# Altium integrated library Q-Resistors.IntLib: 917 symbols (part 1 of 8)
Pins are listed as number, name and electrical type; pins without a type are passive.

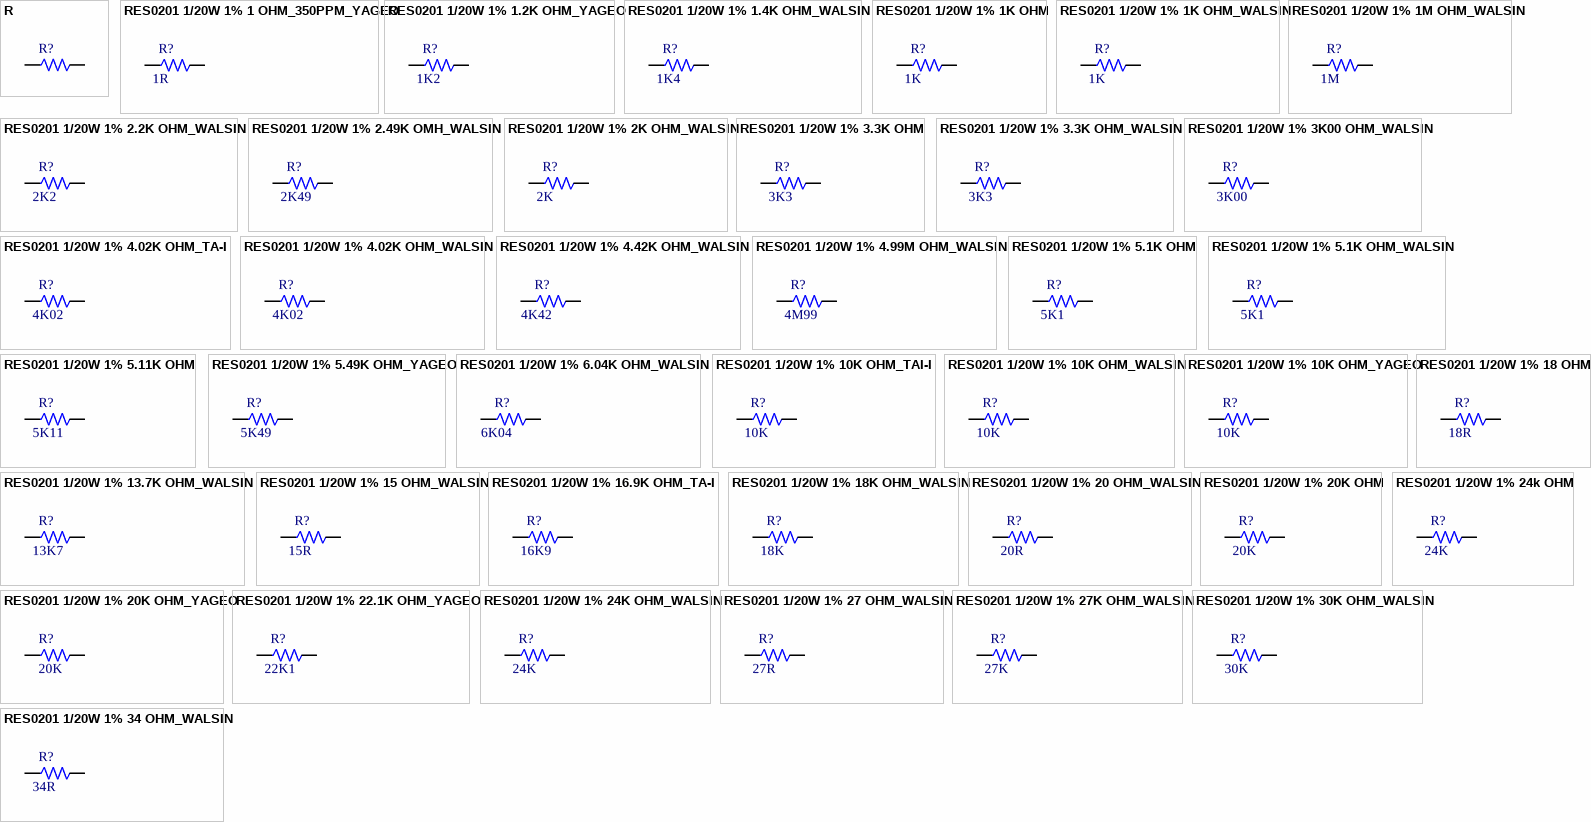
[diagram p0: symbols R to RES0201 1/20W 1% 34 OHM_WALSIN]

## R
designator R?
pins: 1, 2

## RES0201 1/20W 1% 1 OHM_350PPM_YAGEO
designator R?, comment value 1R  (hidden comment: T502100B08371)
CHIP 1 OHM 350PPM +-1% 0201 YAGE L; Power: 1/20W; MFG: YAGEO (國巨); TOL: 1%; CREATE_NAME: Nathan; DIP&SMD: SMD; Vendor Code: *; SAP: T502100B08371; Vendor Name: *; MFG Part: N/A; Type: Resistor; CREATE_TIME: 04-Jun-2020; PACKAGE: 0201; Customer Specific: N/A
footprint 0201
pins: 1, 2

## RES0201 1/20W 1% 1.2K OHM_YAGEO
designator R?, comment value 1K2  (hidden comment: T5021201083A1)
CHIP 1.2K OHM 200PPM +-1% 0201 YAGE L; MFG Part: RC0201FR-071K2L; Power: 1/20W; MFG: YAGEO (國巨); TOL: 1%; CREATE_NAME: Nathan; DIP&SMD: SMD; Vendor Code: *; SAP: T5021201083A1; Vendor Name: *; Type: Resistor; CREATE_TIME: 12-Apr-2019; PACKAGE: 0201; Customer Specific: N/A
footprint 0201
pins: 1, 2

## RES0201 1/20W 1% 1.4K OHM_WALSIN
designator R?, comment value 1K4  (hidden comment: T5021401083A9)
CHIP 1.4K OHM 200PPM +-1% 0201 WALS L; MFG Part: WR02X1401FAL; Power: 1/20W; MFG: WALSIN; TOL: 1%; CREATE_NAME: Nathan; DIP&SMD: SMD; Vendor Code: *; SAP: T5021401083A9; Vendor Name: *; Type: Resistor; CREATE_TIME: 05-Mar-2020; PACKAGE: 0201; Customer Specific: N/A
footprint 0201
pins: 1, 2

## RES0201 1/20W 1% 1K OHM
designator R?, comment value 1K  (hidden comment: T5021001083A1)
CHIP 1K OHM    200PPM +-1% 0201 YAGE L; Power: 1/20W; MFG: YAGEO (國巨); TOL: 1%; CREATE_NAME: Cherry.Chen; DIP&SMD: SMD; Vendor Code: *; SAP: T5021001083A1; Vendor Name: *; MFG Part: N/A; Type: Resistor; CREATE_TIME: 24-Feb-2016; PACKAGE: 0201; Customer Specific: N/A
footprint 0201
pins: 1, 2

## RES0201 1/20W 1% 1K OHM_WALSIN
designator R?, comment value 1K  (hidden comment: T5021001083A9)
CHIP 1K OHM    200PPM +-1% 0201 WALS L; MFG Part: WR02X1001FTL; Power: 1/20W; MFG: WALSIN; TOL: 1%; CREATE_NAME: Nathan; DIP&SMD: SMD; Vendor Code: *; SAP: T5021001083A9; Vendor Name: *; Type: Resistor; CREATE_TIME: 08-Jan-2018; PACKAGE: 0201; Customer Specific: N/A
footprint 0201
pins: 1, 2

## RES0201 1/20W 1% 1M OHM_WALSIN
designator R?, comment value 1M  (hidden comment: T5021004083A9)
CHIP 1M OHM 200PPM +-1% 0201 WALS L; MFG Part: WR02X1004FAL; Power: 1/20W; MFG: WALSIN (華新); TOL: 1%; CREATE_NAME: Nathan; DIP&SMD: SMD; Vendor Code: *; SAP: T5021004083A9; Vendor Name: *; Type: Resistor; CREATE_TIME: 08-June-2017; PACKAGE: 0201; Customer Specific: N/A
footprint 0201
pins: 1, 2

## RES0201 1/20W 1% 2.2K OHM_WALSIN
designator R?, comment value 2K2  (hidden comment: T5022201083A9)
CHIP 2.2K OHM 200PPM +-1% 0201 WALS L; MFG Part: WR02X2201FAL; Power: 1/20W; MFG: WALSIN (華新); TOL: 1%; CREATE_NAME: Nathan; DIP&SMD: SMD; Vendor Code: *; SAP: T5022201083A9; Vendor Name: *; Type: Resistor; CREATE_TIME: 12-July-2018; PACKAGE: 0201; Customer Specific: N/A
footprint 0201
pins: 1, 2

## RES0201 1/20W 1% 2.49K OMH_WALSIN
designator R?, comment value 2K49  (hidden comment: T5022491083A9)
CHIP 2.49K OHM 200PPM +-1% 0201 WALS L; MFG Part: WR02X2491FAL; TOL: 1%; MFG: WALSIN (華新); Power: 1/20W; CREATE_NAME: Nathan; DIP&SMD: SMD; SAP: T5022491083A9; Package: 0201; Vendor Code: *; Vendor Name: *; Type: Resistor; CREATE_TIME: 16-Apr-2018; Customer Specific: N/A
footprint 0201
pins: 1, 2

## RES0201 1/20W 1% 2K OHM_WALSIN
designator R?, comment value 2K  (hidden comment: T5022001083A9)
CHIP 2K OHM 200PPM +-1% 0201 WALS L; MFG Part: WR02X2001FAL; Power: 1/20W; MFG: WALSIN (華新); TOL: 1%; CREATE_NAME: Nathan; DIP&SMD: SMD; Vendor Code: *; SAP: T5022001083A9; Vendor Name: *; Type: Resistor; CREATE_TIME: 10-May-2018; PACKAGE: 0201; Customer Specific: N/A
footprint 0201
pins: 1, 2

## RES0201 1/20W 1% 3.3K OHM
designator R?, comment value 3K3  (hidden comment: T5023301083A4)
CHIP 3.3K OHM  200PPM +-1% 0201 TA-I L; Power: 1/20W; MFG: TA-I (大毅); TOL: 1%; CREATE_NAME: Cherry.Chen; DIP&SMD: SMD; Vendor Code: *; SAP: T5023301083A4; Vendor Name: *; MFG Part: N/A; Type: Resistor; CREATE_TIME: 24-Feb-2016; PACKAGE: 0201; Customer Specific: N/A
footprint 0201
pins: 1, 2

## RES0201 1/20W 1% 3.3K OHM_WALSIN
designator R?, comment value 3K3  (hidden comment: T5023301083A9)
CHIP 3.3K OHM  200PPM +-1% 0201 WALS L; MFG Part: WR02X3301FAL; Power: 1/20W; MFG: WALSIN (華新); TOL: 1%; CREATE_NAME: Nathan; DIP&SMD: SMD; Vendor Code: *; SAP: T5023301083A9; Vendor Name: *; Type: Resistor; CREATE_TIME: 03-Jan-2018; PACKAGE: 0201; Customer Specific: N/A
footprint 0201
pins: 1, 2

## RES0201 1/20W 1% 3K00 OHM_WALSIN
designator R?  value 3K00  (hidden comment: *)
CHIP 3K00 OHM  200PPM +-1% 0201 WALSIN; MFG Part: WR02X3001FAL; Power: 1/20W; MFG: WALSIN (華新); TOL: 1%; CREATE_NAME: Nathan; DIP&SMD: SMD; Vendor Code: *; SAP: *; Vendor Name: *; Type: Resistor; CREATE_TIME: 25-Aug-2020; PACKAGE: 0201; Customer Specific: N/A
footprint 0201
pins: 1, 2

## RES0201 1/20W 1% 4.02K OHM_TA-I
designator R?, comment value 4K02  (hidden comment: T5024021083A4)
CHIP 4.02K OHM 200PPM +-1% 0201 TA-I L; Power: 1/20W; TOL: 1%; CREATE_NAME: Nathan; DIP&SMD: SMD; Vendor Code: *; SAP: T5024021083A4; Vendor Name: *; MFG Part: N/A; MFG: TA-I; Type: Resistor; CREATE_TIME: 22-May-2016; PACKAGE: 0201; Customer Specific: N/A
footprint 0201
pins: 1, 2

## RES0201 1/20W 1% 4.02K OHM_WALSIN
designator R?, comment value 4K02  (hidden comment: T5024021083A9)
CHIP 4.02K OHM 200PPM +-1% 0201 WALS L; MFG Part: WR02X4021FAL; Power: 1/20W; MFG: WALSIN; TOL: 1%; CREATE_NAME: Nathan; DIP&SMD: SMD; Vendor Code: *; SAP: T5024021083A9; Vendor Name: *; Type: Resistor; CREATE_TIME: 05-Mar-2020; PACKAGE: 0201; Customer Specific: N/A
footprint 0201
pins: 1, 2

## RES0201 1/20W 1% 4.42K OHM_WALSIN
designator R?, comment value 4K42  (hidden comment: T5024421083A9)
CHIP 4.42K OHM 200PPM +-1% 0201 WALS L; MFG Part: WR02X4421FAL; Power: 1/20W; MFG: WALSIN (華新); TOL: 1%; CREATE_NAME: Nathan; DIP&SMD: SMD; Vendor Code: *; SAP: T5024421083A9; Vendor Name: *; Type: Resistor; PACKAGE: 0603; CREATE_TIME: 23-July-2019; Customer Specific: N/A
footprint 0201
pins: 1, 2

## RES0201 1/20W 1% 4.99M OHM_WALSIN
designator R?, comment value 4M99  (hidden comment: T5024994083A9)
CHIP 4.99M OHM 200PPM +-1% 0201 WALS L; MFG Part: WR02W4994FAL; Power: 1/20W; MFG: WALSIN; TOL: 1%; CREATE_NAME: Nathan; DIP&SMD: SMD; Vendor Code: *; SAP: T5024994083A9; Vendor Name: *; Type: Resistor; CREATE_TIME: 08-June-2017; PACKAGE: 0201; Customer Specific: N/A
footprint 0201
pins: 1, 2

## RES0201 1/20W 1% 5.1K OHM
designator R?, comment value 5K1  (hidden comment: T5025101083A4)
CHIP 5.1K OHM  200PPM +-1% 0201 TA-I L; Power: 1/20W; MFG: TA-I (大毅); TOL: 1%; CREATE_NAME: Cherry.Chen; DIP&SMD: SMD; Vendor Code: *; SAP: T5025101083A4; Vendor Name: *; MFG Part: N/A; Type: Resistor; CREATE_TIME: 24-Feb-2016; PACKAGE: 0201; Customer Specific: N/A
footprint 0201
pins: 1, 2

## RES0201 1/20W 1% 5.1K OHM_WALSIN
designator R?, comment value 5K1  (hidden comment: T5025101083A9)
CHIP 5.1K OHM  200PPM +-1% 0201 WALS L; MFG Part: WR02X5101FTL; Power: 1/20W; MFG: WALSIN (華新); TOL: 1%; CREATE_NAME: Nathan; DIP&SMD: SMD; Vendor Code: *; SAP: T5025101083A9; Vendor Name: *; Type: Resistor; CREATE_TIME: 08-Jan-2018; PACKAGE: 0201; Customer Specific: N/A
footprint 0201
pins: 1, 2

## RES0201 1/20W 1% 5.11K OHM
designator R?, comment value 5K11  (hidden comment: T5025111083A4)
CHIP 5.11K OHM 200PPM +-1% 0201 TA-I L; MFG Part: RM02FTN5111; Power: 1/20W; MFG: TA-I (大毅); TOL: 1%; CREATE_NAME: Cherry.Chen; DIP&SMD: SMD; Vendor Code: *; SAP: T5025111083A4; Vendor Name: *; Type: Resistor; CREATE_TIME: 24-Feb-2016; PACKAGE: 0201; Customer Specific: N/A
footprint 0201
pins: 1, 2

## RES0201 1/20W 1% 5.49K OHM_YAGEO
designator R?, comment value 5K49  (hidden comment: T5025491083A1)
CHIP 5.49K OHM 200PPM +-1% 0201 YAGE L; MFG Part: RC0201FR-075K49L; Power: 1/20W; MFG: YAGEO; TOL: 1%; CREATE_NAME: Nathan; DIP&SMD: SMD; Vendor Code: *; SAP: T5025491083A1; Vendor Name: *; Type: Resistor; CREATE_TIME: 26-Mar-2020; PACKAGE: 0201; Customer Specific: N/A
footprint 0201
pins: 1, 2

## RES0201 1/20W 1% 6.04K OHM_WALSIN
designator R?, comment value 6K04  (hidden comment: T5026041083A9)
CHIP 6.04K OHM 200PPM +-1% 0201 WALS L; MFG Part: WR02X6041FAL; Power: 1/20W; MFG: WALSIN (華新); TOL: 1%; CREATE_NAME: Nathan; DIP&SMD: SMD; Vendor Code: *; SAP: T5026041083A9; Vendor Name: *; Type: Resistor; PACKAGE: 0201; CREATE_TIME: 23-July-2019; Customer Specific: N/A
footprint 0201
pins: 1, 2

## RES0201 1/20W 1% 10K OHM_TAI-I
designator R?, comment value 10K  (hidden comment: T5021002083A4)
CHIP 10K OHM 200PPM +-1% 0201 TA-I L; MFG Part: RM02FTN1002; Power: 1/20W; MFG: TA-I (大毅); TOL: 1%; CREATE_NAME: Nathan; DIP&SMD: SMD; Vendor Code: *; SAP: T5021002083A4; Vendor Name: *; Type: Resistor; CREATE_TIME: 22-May-2016; PACKAGE: 0201; Customer Specific: N/A
footprint 0201
pins: 1, 2

## RES0201 1/20W 1% 10K OHM_WALSIN
designator R?, comment value 10K  (hidden comment: T5021002083A9)
CHIP 10K OHM 200PPM +-1% 0201 WALS L; MFG Part: WR02X1002FAL; Power: 1/20W; MFG: WALSIN; TOL: 1%; CREATE_NAME: Nathan; DIP&SMD: SMD; Vendor Code: *; SAP: T5021002083A9; Vendor Name: *; Type: Resistor; CREATE_TIME: 08-Jan-2018; PACKAGE: 0201; Customer Specific: N/A
footprint 0201
pins: 1, 2

## RES0201 1/20W 1% 10K OHM_YAGEO
designator R?, comment value 10K  (hidden comment: T5021002083A1)
CHIP 10K OHM   200PPM +-1% 0201 YAGE L; Power: 1/20W; MFG: YAGEO (國巨); TOL: 1%; CREATE_NAME: Nathan; DIP&SMD: SMD; Vendor Code: *; SAP: T5021002083A1; Vendor Name: *; MFG Part: N/A; Type: Resistor; CREATE_TIME: 23-May-2016; PACKAGE: 0201; Customer Specific: N/A
footprint 0201
pins: 1, 2

## RES0201 1/20W 1% 13.7K OHM_WALSIN
designator R?, comment value 13K7  (hidden comment: T5021372083A9)
CHIP 13.7K OHM 200PPM +-1% 0201 WALS L; MFG Part: WR02X1372FAL; Power: 1/20W; MFG: WALSIN; TOL: 1%; CREATE_NAME: Nathan; DIP&SMD: SMD; Vendor Code: *; SAP: T5021372083A9; Vendor Name: *; Type: Resistor; CREATE_TIME: 26-Mar-2020; PACKAGE: 0201; Customer Specific: N/A
footprint 0201
pins: 1, 2

## RES0201 1/20W 1% 15 OHM_WALSIN
designator R?, comment value 15R  (hidden comment: T502150A083A9)
CHIP 15 OHM 200PPM +-1% 0201 WALS L; MFG Part: WR02X15R0FAL; Power: 1/20W; MFG: WALSIN; TOL: 1%; CREATE_NAME: Nathan; DIP&SMD: SMD; Vendor Code: *; SAP: T502150A083A9; Vendor Name: *; Type: Resistor; CREATE_TIME: 21-June-2019; PACKAGE: 0201; Customer Specific: N/A
footprint 0201
pins: 1, 2

## RES0201 1/20W 1% 16.9K OHM_TA-I
designator R?  value 16K9  (hidden comment: *)
CHIP 16.9K ±1% OHM 0201; MFG Part: RM02FTN1692; Power: 1/20W; MFG: TA-I; CREATE_NAME: Nathan; DIP&SMD: SMD; Vendor Code: *; SAP: *; Vendor Name: *; TOL: 1%; Type: Resistor; CREATE_TIME: 23-Jul-2020; PACKAGE: 0201; Customer Specific: N/A
footprint 0201
pins: 1, 2

## RES0201 1/20W 1% 18 OHM
designator R?, comment value 18R  (hidden comment: T502180A083A9)
CHIP 18 OHM    200PPM +-1% 0201 WALS L; Power: 1/20W; TOL: 1%; CREATE_NAME: Nathan; DIP&SMD: SMD; Vendor Code: *; SAP: T502180A083A9; Vendor Name: *; MFG Part: N/A; MFG: WALS; Type: Resistor; CREATE_TIME: 23-May-2016; PACKAGE: 0201; Customer Specific: N/A
footprint 0201
pins: 1, 2

## RES0201 1/20W 1% 18K OHM_WALSIN
designator R?, comment value 18K  (hidden comment: T5021802083A9)
CHIP 18K OHM 200PPM +-1% 0201 WALSIN L; Power: 1/20W; MFG: WALSIN (華新); TOL: 1%; CREATE_NAME: Nathan; DIP&SMD: SMD; Vendor Code: *; SAP: T5021802083A9; Vendor Name: *; MFG Part: *; Type: Resistor; CREATE_TIME: 29-Mar-2017; PACKAGE: 0201; Customer Specific: N/A
footprint 0201
pins: 1, 2

## RES0201 1/20W 1% 20 OHM_WALSIN
designator R?, comment value 20R  (hidden comment: T502200A083A9)
CHIP 20 OHM 200PPM +-1% 0201 WALS L; MFG Part: WR02X20R0FAL; Power: 1/20W; MFG: WALSIN (華新); TOL: 1%; CREATE_NAME: Nathan; DIP&SMD: SMD; Vendor Code: *; SAP: T502200A083A9; Vendor Name: *; Type: Resistor; CREATE_TIME: 25-Aug-2020; PACKAGE: 0201; Customer Specific: N/A
footprint 0201
pins: 1, 2

## RES0201 1/20W 1% 20K OHM
designator R?, comment value 20K  (hidden comment: T5022002083A4)
CHIP 20K OHM   200PPM +-1% 0201 TA-I L; Power: 1/20W; MFG: TA-I (大毅); TOL: 1%; CREATE_NAME: Nathan; DIP&SMD: SMD; Vendor Code: *; SAP: T5022002083A4; Vendor Name: *; MFG Part: N/A; Type: Resistor; CREATE_TIME: 22-May-2016; PACKAGE: 0201; Customer Specific: N/A
footprint 0201
pins: 1, 2

## RES0201 1/20W 1% 20K OHM_YAGEO
designator R?, comment value 20K  (hidden comment: T5022002083A1)
CHIP 20K OHM  200PPM +-1% 0201 YAGE; MFG Part: RC0201FR-0720KL; Power: 1/20W; MFG: YAGEO; TOL: 1%; CREATE_NAME: Beryl; DIP&SMD: SMD; Vendor Code: *; SAP: T5022002083A1; Vendor Name: *; Type: Resistor; CREATE_TIME: 05-Feb-2020; PACKAGE: 0201; Customer Specific: N/A
footprint 0201
pins: 1, 2

## RES0201 1/20W 1% 22.1K OHM_YAGEO
designator R?  value 22K1  (hidden comment: *)
CHIP 22.1K OHM  200PPM +-1% 0201 YAGE; Power: 1/20W; MFG: YAGEO (國巨); TOL: 1%; CREATE_NAME: Nathan; DIP&SMD: SMD; Vendor Code: *; SAP: *; Vendor Name: *; MFG Part: N/A; Type: Resistor; CREATE_TIME: 24-Sep-2020; PACKAGE: 0201; Customer Specific: N/A
footprint 0201
pins: 1, 2

## RES0201 1/20W 1% 24k OHM
designator R?, comment value 24K  (hidden comment: T5022402083A1)
CHIP 24K OHM   200PPM +-1% 0201 YAGE L; MFG Part: RC0201FR-0724KL; Power: 1/20W; MFG: YAGEO (國巨); TOL: 1%; CREATE_NAME: Cherry.Chen; DIP&SMD: SMD; Vendor Code: *; SAP: T5022402083A1; Vendor Name: *; Type: Resistor; CREATE_TIME: 24-Feb-2016; PACKAGE: 0201; Customer Specific: N/A
footprint 0201
pins: 1, 2

## RES0201 1/20W 1% 24K OHM_WALSIN
designator R?, comment value 24K  (hidden comment: T5022402083A9)
CHIP 24K OHM   200PPM +-1% 0201 WALS L; MFG Part: WR02X2402FAL; Power: 1/20W; MFG: WALSIN (華新); TOL: 1%; CREATE_NAME: Nathan; DIP&SMD: SMD; Vendor Code: *; SAP: T5022402083A9; Vendor Name: *; Type: Resistor; CREATE_TIME: 03-Jan-2018; PACKAGE: 0201; Customer Specific: N/A
footprint 0201
pins: 1, 2

## RES0201 1/20W 1% 27 OHM_WALSIN
designator R?, comment value 27R  (hidden comment: T502270A083A9)
CHIP 27 OHM 200PPM +-1% 0201 WALS L; MFG Part: WR02X27R0FAL; Power: 1/20W; MFG: WALSIN; TOL: 1%; CREATE_NAME: Nathan; DIP&SMD: SMD; Vendor Code: *; SAP: T502270A083A9; Vendor Name: *; Type: Resistor; CREATE_TIME: 05-Mar-2020; PACKAGE: 0201; Customer Specific: N/A
footprint 0201
pins: 1, 2

## RES0201 1/20W 1% 27K OHM_WALSIN
designator R?, comment value 27K  (hidden comment: T5022702083A9)
CHIP 27K OHM   200PPM +-1% 0201 WALS L; MFG Part: WR02X2702FAL; Power: 1/20W; MFG: WALSIN (華新); TOL: 1%; CREATE_NAME: Nathan; DIP&SMD: SMD; Vendor Code: *; SAP: T5022702083A9; Vendor Name: *; Type: Resistor; CREATE_TIME: 03-Jan-2018; PACKAGE: 0201; Customer Specific: N/A
footprint 0201
pins: 1, 2

## RES0201 1/20W 1% 30K OHM_WALSIN
designator R?, comment value 30K  (hidden comment: T5023002083A9)
CHIP 30K OHM 200PPM +-1% 0201 WALS L; MFG Part: WR02X3002FTL; Power: 1/20W; MFG: WALSIN (華新); TOL: 1%; CREATE_NAME: Nathan; DIP&SMD: SMD; Vendor Code: *; SAP: T5023002083A9; Vendor Name: *; Type: Resistor; CREATE_TIME: 09-Sep-2019; PACKAGE: 0201; Customer Specific: N/A
footprint 0201
pins: 1, 2

## RES0201 1/20W 1% 34 OHM_WALSIN
designator R?, comment value 34R  (hidden comment: T502340A083A9)
CHIP 34 OHM  1 200PPM +-1% 0201 WALS L; MFG Part: WR02X34R0FAL; Power: 1/20W; MFG: WALSIN (華新); TOL: 1%; CREATE_NAME: Nathan; DIP&SMD: SMD; Vendor Code: *; SAP: T502340A083A9; Vendor Name: *; Type: Resistor; CREATE_TIME: 03-Jan-2018; PACKAGE: 0201; Customer Specific: N/A
footprint 0201
pins: 1, 2

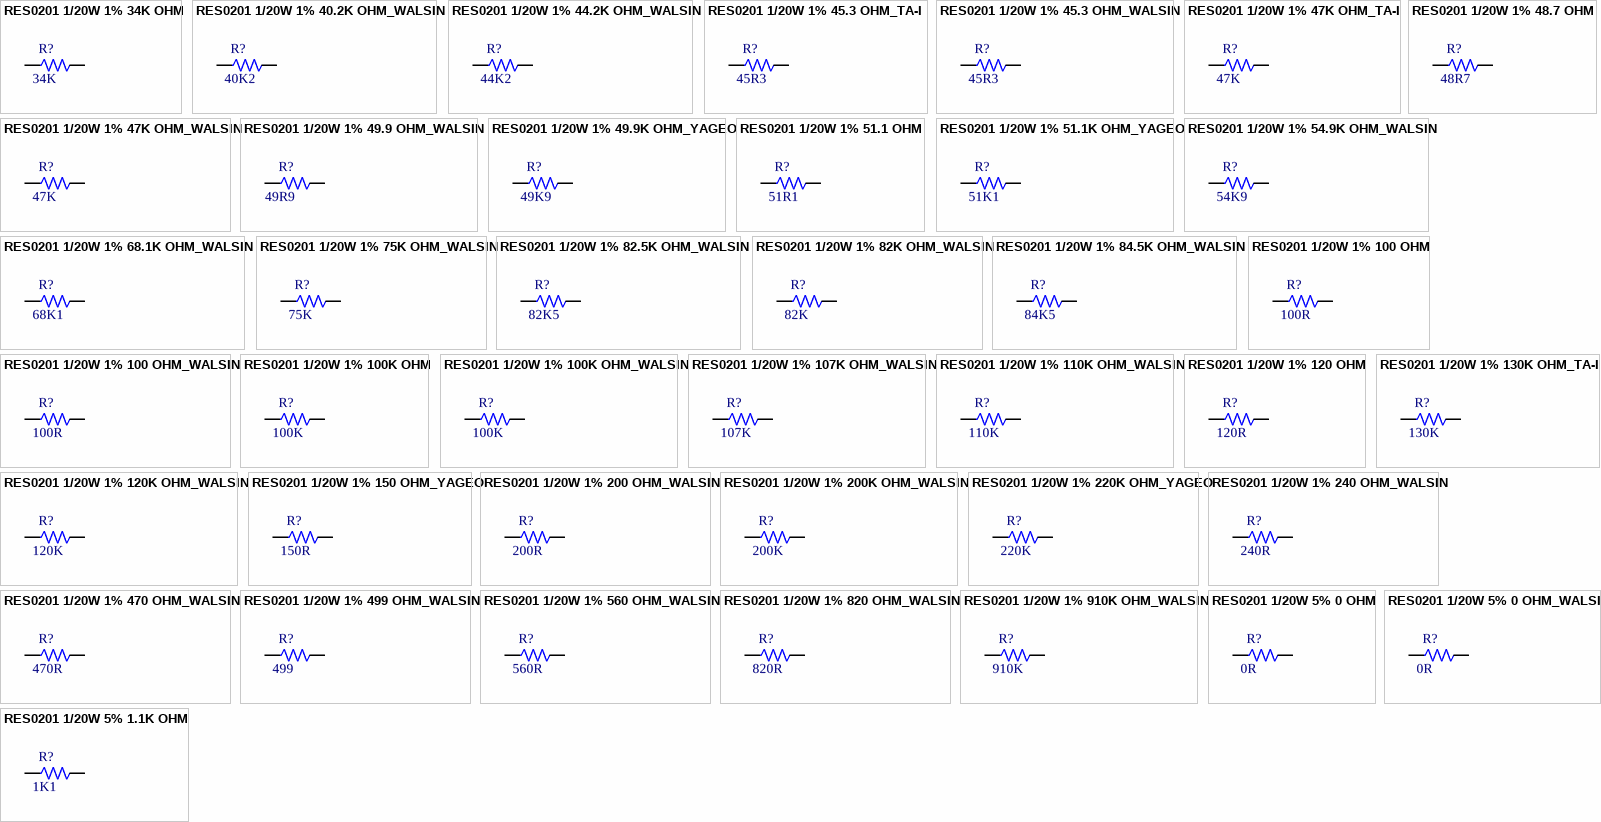
[diagram p1: symbols RES0201 1/20W 1% 34K OHM to RES0201 1/20W 5% 1.1K OHM]

## RES0201 1/20W 1% 34K OHM
designator R?, comment value 34K  (hidden comment: T5023402083A1)
CHIP 34K OHM   200PPM +-1% 0201 YAGE L; Power: 1/20W; MFG: YAGEO (國巨); TOL: 1%; CREATE_NAME: Cherry.Chen; DIP&SMD: SMD; Vendor Code: *; SAP: T5023402083A1; Vendor Name: *; MFG Part: *; Type: Resistor; CREATE_TIME: 24-Feb-2016; PACKAGE: 0201; Customer Specific: N/A
footprint 0201
pins: 1, 2

## RES0201 1/20W 1% 40.2K OHM_WALSIN
designator R?, comment value 40K2  (hidden comment: T5024022083A9)
CHIP 40.2K OHM 200PPM +-1% 0201 WALS L; Power: 1/20W; MFG: WALSIN (華新); TOL: 1%; CREATE_NAME: Nathan; DIP&SMD: SMD; Vendor Code: *; SAP: T5024022083A9; Vendor Name: *; MFG Part: *; Type: Resistor; CREATE_TIME: 02-June-2017; PACKAGE: 0201; Customer Specific: N/A
footprint 0201
pins: 1, 2

## RES0201 1/20W 1% 44.2K OHM_WALSIN
designator R?, comment value 44K2  (hidden comment: T5024422083A9)
CHIP 44.2K OHM 200PPM +-1% 0201 WALS L; MFG Part: WR02X4422FTL; Power: 1/20W; MFG: WALSIN (華新); TOL: 1%; CREATE_NAME: Nathan; DIP&SMD: SMD; Vendor Code: *; SAP: T5024422083A9; Vendor Name: *; Type: Resistor; CREATE_TIME: 17-Jan-2018; PACKAGE: 0201; Customer Specific: N/A
footprint 0201
pins: 1, 2

## RES0201 1/20W 1% 45.3 OHM_TA-I
designator R?, comment value 45R3  (hidden comment: T502453A083A4)
CHIP 45.3 OHM 200PPM +-1% 0201 TA-I L; MFG Part: RM02FTN45R3; Power: 1/20W; TOL: 1%; CREATE_NAME: Nathan; DIP&SMD: SMD; Vendor Code: *; SAP: T502453A083A4; Vendor Name: *; MFG: TA-I; Type: Resistor; CREATE_TIME: 24-May-2017; PACKAGE: 0201; Customer Specific: N/A
footprint 0201
pins: 1, 2

## RES0201 1/20W 1% 45.3 OHM_WALSIN
designator R?, comment value 45R3  (hidden comment: T502453A083A9)
CHIP 45.3 OHM  200PPM +-1% 0201 WALS L; MFG Part: WR02X45R3FAL; Power: 1/20W; MFG: WALSIN (華新); TOL: 1%; CREATE_NAME: Nathan; DIP&SMD: SMD; Vendor Code: *; SAP: T502453A083A9; Vendor Name: *; Type: Resistor; CREATE_TIME: 03-Jan-2018; PACKAGE: 0201; Customer Specific: N/A
footprint 0201
pins: 1, 2

## RES0201 1/20W 1% 47K OHM_TA-I
designator R?, comment value 47K  (hidden comment: T5024702083A4)
CHIP 47K OHM   200PPM +-1% 0201 TA-I L; Power: 1/20W; TOL: 1%; CREATE_NAME: Nathan; DIP&SMD: SMD; Vendor Code: *; SAP: T5024702083A4; Vendor Name: *; MFG Part: N/A; MFG: TA-I; Type: Resistor; CREATE_TIME: 22-May-2016; PACKAGE: 0201; Customer Specific: N/A
footprint 0201
pins: 1, 2

## RES0201 1/20W 1% 47K OHM_WALSIN
designator R?, comment value 47K  (hidden comment: T5024702083A9)
CHIP 47K OHM   200PPM +-1% 0201 WALS L; MFG Part: WR02X4702FAL; Power: 1/20W; MFG: WALSIN (華新); TOL: 1%; CREATE_NAME: Nathan; DIP&SMD: SMD; Vendor Code: *; SAP: T5024702083A9; Vendor Name: *; Type: Resistor; CREATE_TIME: 03-Jan-2018; PACKAGE: 0201; Customer Specific: N/A
footprint 0201
pins: 1, 2

## RES0201 1/20W 1% 48.7 OHM
designator R?, comment value 48R7  (hidden comment: T502487A083A4)
CHIP 48.7 OHM  200PPM +-1% 0201 TA-I L; Power: 1/20W; MFG: TA-I (大毅); TOL: 1%; CREATE_NAME: Cherry.Chen; DIP&SMD: SMD; Vendor Code: *; SAP: T502487A083A4; Vendor Name: *; MFG Part: *; Type: Resistor; CREATE_TIME: 24-Feb-2016; PACKAGE: 0201; Customer Specific: N/A
footprint 0201
pins: 1, 2

## RES0201 1/20W 1% 49.9 OHM_WALSIN
designator R?, comment value 49R9  (hidden comment: T502499A083A9)
CHIP 49.9 OHM 200PPM +-1% 0201 WALS; MFG Part: WR02X49R9FAL; Power: 1/20W; MFG: WALSIN (華新); TOL: 1%; CREATE_NAME: Nathan; DIP&SMD: SMD; Vendor Code: *; SAP: T502499A083A9; Vendor Name: *; Type: Resistor; PACKAGE: 0201; CREATE_TIME: 23-July-2019; Customer Specific: N/A
footprint 0201
pins: 1, 2

## RES0201 1/20W 1% 49.9K OHM_YAGEO
designator R?, comment value 49K9  (hidden comment: T5024992083A1)
CHIP 49.9K OHM 200PPM +-1% 0201 YAGE L; Power: 1/20W; MFG: YAGEO (國巨); TOL: 1%; CREATE_NAME: Nathan; DIP&SMD: SMD; Vendor Code: *; SAP: T5024992083A1; Vendor Name: *; MFG Part: N/A; Type: Resistor; CREATE_TIME: 22-May-2016; PACKAGE: 0201; Customer Specific: N/A
footprint 0201
pins: 1, 2

## RES0201 1/20W 1% 51.1 OHM
designator R?, comment value 51R1  (hidden comment: T502511A083A4)
CHIP 51.1 OHM  200PPM +-1% 0201 TA-I L; MFG Part: RM02FTN51R1; Power: 1/20W; MFG: TA-I (大毅); TOL: 1%; CREATE_NAME: Cherry.Chen; DIP&SMD: SMD; Vendor Code: *; SAP: T502511A083A4; Vendor Name: *; Type: Resistor; CREATE_TIME: 24-Feb-2016; PACKAGE: 0201; Customer Specific: N/A
footprint 0201
pins: 1, 2

## RES0201 1/20W 1% 51.1K OHM_YAGEO
designator R?, comment value 51K1  (hidden comment: T5025112083A1)
CHIP 51.1K OHM 200PPM +-1% 0201 YAGE L; Power: 1/20W; MFG: YAGEO (國巨); TOL: 1%; CREATE_NAME: Nathan; DIP&SMD: SMD; Vendor Code: *; SAP: T5025112083A1; Vendor Name: *; MFG Part: N/A; Type: Resistor; CREATE_TIME: 22-May-2016; PACKAGE: 0201; Customer Specific: N/A
footprint 0201
pins: 1, 2

## RES0201 1/20W 1% 54.9K OHM_WALSIN
designator R?, comment value 54K9  (hidden comment: T5025492083A9)
CHIP 54.9K OHM 200PPM +-1% 0201 WALS L; MFG Part: WR02X5492FAL; Power: 1/20W; MFG: WALSIN (華新); TOL: 1%; CREATE_NAME: Nathan; DIP&SMD: SMD; Vendor Code: *; SAP: T5025492083A9; Vendor Name: *; Type: Resistor; CREATE_TIME: 03-Jan-2018; PACKAGE: 0201; Customer Specific: N/A
footprint 0201
pins: 1, 2

## RES0201 1/20W 1% 68.1K OHM_WALSIN
designator R?, comment value 68K1  (hidden comment: T5026812083A9)
CHIP 68.1K OHM 200PPM +-1% 0201 WALS L; MFG Part: WR02X6812FAL; Power: 1/20W; MFG: WALSIN; TOL: 1%; CREATE_NAME: Nathan; DIP&SMD: SMD; Vendor Code: *; SAP: T5026812083A9; Vendor Name: *; Type: Resistor; CREATE_TIME: 10-Mar-2020; PACKAGE: 0201; Customer Specific: N/A
footprint 0201
pins: 1, 2

## RES0201 1/20W 1% 75K OHM_WALSIN
designator R?, comment value 75K  (hidden comment: T5027502083A9)
CHIP 75K OHM 200PPM +-1% 0201 WALS L; MFG Part: WR02X7502FTL; Power: 1/20W; MFG: WALSIN (華新); TOL: 1%; CREATE_NAME: Cherry; DIP&SMD: SMD; Vendor Code: *; SAP: T5027502083A9; Vendor Name: *; Type: Resistor; CREATE_TIME: 06-Feb-2018; PACKAGE: 0201
footprint 0201
pins: 1, 2

## RES0201 1/20W 1% 82.5K OHM_WALSIN
designator R?, comment value 82K5  (hidden comment: T5028252083A9)
CHIP 82.5K OHM 200PPM +-1% 0201 WALS L; MFG Part: WR02X8252FAL; Power: 1/20W; MFG: WALSIN (華新); TOL: 1%; CREATE_NAME: Nathan; DIP&SMD: SMD; Vendor Code: *; SAP: T5028252083A9; Vendor Name: *; Type: Resistor; CREATE_TIME: 03-Jan-2018; PACKAGE: 0201; Customer Specific: N/A
footprint 0201
pins: 1, 2

## RES0201 1/20W 1% 82K OHM_WALSIN
designator R?, comment value 82K  (hidden comment: T5028202083A9)
CHIP 82K OHM 200PPM +-1% 0201 WALSIN L; Power: 1/20W; MFG: WALSIN (華新); TOL: 1%; CREATE_NAME: Nathan; DIP&SMD: SMD; Vendor Code: *; SAP: T5028202083A9; Vendor Name: *; MFG Part: *; Type: Resistor; CREATE_TIME: 29-Mar-2017; PACKAGE: 0201; Customer Specific: N/A
footprint 0201
pins: 1, 2

## RES0201 1/20W 1% 84.5K OHM_WALSIN
designator R?, comment value 84K5  (hidden comment: T5028452083A9)
CHIP 84.5K OHM 200PPM +-1% 0201 WALS L; MFG Part: WR02X8452FTL; Power: 1/20W; MFG: WALSIN (華新); TOL: 1%; CREATE_NAME: Nathan; DIP&SMD: SMD; Vendor Code: *; SAP: T5028452083A9; Vendor Name: *; Type: Resistor; CREATE_TIME: 02-Aug-2018; PACKAGE: 0201; Customer Specific: N/A
footprint 0201
pins: 1, 2

## RES0201 1/20W 1% 100 OHM
designator R?, comment value 100R  (hidden comment: T5021000083A4)
CHIP 100 OHM 200PPM +-1% 0201 TA-I L; Power: 1/20W; MFG: TA-I (大毅); TOL: 1%; CREATE_NAME: Cherry.Chen; DIP&SMD: SMD; Vendor Code: *; SAP: T5021000083A4; Vendor Name: *; MFG Part: N/A; Type: Resistor; CREATE_TIME: 24-Feb-2016; PACKAGE: 0201; Customer Specific: N/A
footprint 0201
pins: 1, 2

## RES0201 1/20W 1% 100 OHM_WALSIN
designator R?, comment value 100R  (hidden comment: T5021000083A9)
CHIP 100 OHM 200PPM +-1% 0201 WALS L; MFG Part: WR02X1000FAL; Power: 1/20W; MFG: WALSIN (華新); TOL: 1%; CREATE_NAME: Nathan; DIP&SMD: SMD; Vendor Code: *; SAP: T5021000083A9; Vendor Name: *; Type: Resistor; CREATE_TIME: 19-Jan-2018; PACKAGE: 0201; Customer Specific: N/A
footprint 0201
pins: 1, 2

## RES0201 1/20W 1% 100K OHM
designator R?, comment value 100K  (hidden comment: T5021003083A1)
CHIP 100K OHM  200PPM +-1% 0201 YAGE L; Power: 1/20W; MFG: YAGEO (國巨); TOL: 1%; CREATE_NAME: Cherry.Chen; DIP&SMD: SMD; Vendor Code: *; SAP: T5021003083A1; Vendor Name: *; MFG Part: N/A; Type: Resistor; CREATE_TIME: 23-Feb-2016; PACKAGE: 0201; Customer Specific: N/A
footprint 0201
pins: 1, 2

## RES0201 1/20W 1% 100K OHM_WALSIN
designator R?, comment value 100K  (hidden comment: T5021003083A9)
CHIP 100K OHM 200PPM +-1% 0201 WALSIN L; Power: 1/20W; MFG: WALSIN (華新); TOL: 1%; CREATE_NAME: Nathan; DIP&SMD: SMD; Vendor Code: *; SAP: T5021003083A9; Vendor Name: *; MFG Part: N/A; Type: Resistor; CREATE_TIME: 29-Mar-2017; PACKAGE: 0201; Customer Specific: N/A
footprint 0201
pins: 1, 2

## RES0201 1/20W 1% 107K OHM_WALSIN
designator R?, comment value 107K  (hidden comment: T5021073083A9)
CHIP 107K OHM 200PPM +-1% 0201 WALS L; MFG Part: WR02X1073FTL; Power: 1/20W; MFG: WALSIN (華新); TOL: 1%; CREATE_NAME: Nathan; DIP&SMD: SMD; Vendor Code: *; SAP: T5021073083A9; Vendor Name: *; Type: Resistor; CREATE_TIME: 12-July-2018; PACKAGE: 0201; Customer Specific: N/A
footprint 0201
pins: 1, 2

## RES0201 1/20W 1% 110K OHM_WALSIN
designator R?, comment value 110K  (hidden comment: T5021103083A9)
CHIP 110K OHM 200PPM +-1% 0201 WALSIN L; Power: 1/20W; MFG: WALSIN (華新); TOL: 1%; CREATE_NAME: Nathan; DIP&SMD: SMD; Vendor Code: *; SAP: T5021103083A9; Vendor Name: *; MFG Part: *; Type: Resistor; CREATE_TIME: 29-Mar-2017; PACKAGE: 0201; Customer Specific: N/A
footprint 0201
pins: 1, 2

## RES0201 1/20W 1% 120 OHM
designator R?, comment value 120R  (hidden comment: T5021200083A4)
CHIP 120 OHM 200PPM +-1% 0201 TA-I L; Power: 1/20W; MFG: TA-I (大毅); TOL: 1%; CREATE_NAME: Cherry.Chen; DIP&SMD: SMD; Vendor Code: *; SAP: T5021200083A4; Vendor Name: *; MFG Part: N/A; Type: Resistor; CREATE_TIME: 24-Feb-2016; PACKAGE: 0201; Customer Specific: N/A
footprint 0201
pins: 1, 2

## RES0201 1/20W 1% 120K OHM_WALSIN
designator R?, comment value 120K  (hidden comment: T502120K083A9)
CHIP 120K OHM 200PPM +-1% 0201 WALSIN L; Power: 1/20W; MFG: WALSIN (華新); TOL: 1%; CREATE_NAME: Nathan; DIP&SMD: SMD; Vendor Code: *; SAP: T502120K083A9; Vendor Name: *; MFG Part: *; Type: Resistor; CREATE_TIME: 29-Mar-2017; PACKAGE: 0201; Customer Specific: N/A
footprint 0201
pins: 1, 2

## RES0201 1/20W 1% 130K OHM_TA-I
designator R?, comment value 130K  (hidden comment: T5021303083A4)
CHIP 130K OHM 200PPM +-1% 0201 TA-I L; MFG Part: RM02FTN1303; Power: 1/20W; TOL: 1%; CREATE_NAME: Nathan; DIP&SMD: SMD; Vendor Code: *; SAP: T5021303083A4; Vendor Name: *; MFG: TA-I; Type: Resistor; CREATE_TIME: 17-June-2019; PACKAGE: 0201; Customer Specific: N/A
footprint 0201
pins: 1, 2

## RES0201 1/20W 1% 150 OHM_YAGEO
designator R?, comment value 150R  (hidden comment: T5021500083A1)
CHIP 150 OHM 200PPM +-1% 0201 YAGE L; MFG Part: RC0201FR-07150RL; Power: 1/20W; MFG: YAGEO; TOL: 1%; CREATE_NAME: Nathan; DIP&SMD: SMD; Vendor Code: *; SAP: T5021500083A1; Vendor Name: *; Type: Resistor; CREATE_TIME: 09-Mar-2020; PACKAGE: 0201; Customer Specific: N/A
footprint 0201
pins: 1, 2

## RES0201 1/20W 1% 200 OHM_WALSIN
designator R?, comment value 200R  (hidden comment: T5022000083A9)
CHIP 200 OHM 200PPM +-1% 0201 WALS L; MFG Part: WR02X2000FAL; Power: 1/20W; MFG: WALSIN (華新); TOL: 1%; CREATE_NAME: Nathan; DIP&SMD: SMD; Vendor Code: *; SAP: T5022000083A9; Vendor Name: *; Type: Resistor; CREATE_TIME: 09-May-2018; PACKAGE: 0201; Customer Specific: N/A
footprint 0201
pins: 1, 2

## RES0201 1/20W 1% 200K OHM_WALSIN
designator R?, comment value 200K  (hidden comment: T5022003083A9)
CHIP 200K OHM 200PPM +-1% 0201 WALS L; MFG Part: WR02X2003FAL; Power: 1/20W; MFG: WALSIN (華新); TOL: 1%; CREATE_NAME: Nathan; DIP&SMD: SMD; Vendor Code: *; SAP: T5022003083A9; Vendor Name: *; Type: Resistor; CREATE_TIME: 17-Jan-2018; PACKAGE: 0201; Customer Specific: N/A
footprint 0201
pins: 1, 2

## RES0201 1/20W 1% 220K OHM_YAGEO
designator R?, comment value 220K  (hidden comment: T5022203083A1)
CHIP 220K OHM  200PPM +-1% 0201 YAGE; Power: 1/20W; MFG: YAGEO (國巨); TOL: 1%; CREATE_NAME: Nathan; DIP&SMD: SMD; Vendor Code: *; SAP: T5022203083A1; Vendor Name: *; MFG Part: N/A; Type: Resistor; CREATE_TIME: 22-May-2016; PACKAGE: 0201; Customer Specific: N/A
footprint 0201
pins: 1, 2

## RES0201 1/20W 1% 240 OHM_WALSIN
designator R?, comment value 240R  (hidden comment: T5022400083A9)
CHIP 240 OHM 200PPM +-1% 0201 WALS L; MFG Part: WR02X2400FAL; Power: 1/20W; MFG: WALSIN (華新); TOL: 1%; CREATE_NAME: Nathan; DIP&SMD: SMD; Vendor Code: *; SAP: T5022400083A9; Vendor Name: *; Type: Resistor; CREATE_TIME: 12-July-2018; PACKAGE: 0201; Customer Specific: N/A
footprint 0201
pins: 1, 2

## RES0201 1/20W 1% 470 OHM_WALSIN
designator R?, comment value 470R  (hidden comment: T5024700083A9)
CHIP 470 OHM   200PPM +-1% 0201 WALS L; MFG Part: WR02X4700FAL; Power: 1/20W; MFG: WALSIN (華新); TOL: 1%; CREATE_NAME: Nathan; DIP&SMD: SMD; Vendor Code: *; SAP: T5024700083A9; Vendor Name: *; Type: Resistor; CREATE_TIME: 21-Apr-2021; PACKAGE: 0201; Customer Specific: N/A
footprint 0201
pins: 1, 2

## RES0201 1/20W 1% 499 OHM_WALSIN
designator R?, comment value 499  (hidden comment: T5024990083A9)
CHIP 499 OHM   200PPM +-1% 0201 WALS L; Power: 1/20W; MFG: WALSIN; TOL: 1%; CREATE_NAME: Nathan; DIP&SMD: SMD; Vendor Code: *; SAP: T5024990083A9; Vendor Name: *; MFG Part: N/A; Type: Resistor; CREATE_TIME: 22-May-2016; PACKAGE: 0201; Customer Specific: N/A
footprint 0201
pins: 1, 2

## RES0201 1/20W 1% 560 OHM_WALSIN
designator R?, comment value 560R  (hidden comment: T5025600083A9)
CHIP 560 OHM 200PPM +-1% 0201 WALS L; MFG Part: WR02X5600FAL; Power: 1/20W; MFG: WALSIN (華新); TOL: 1%; CREATE_NAME: Nathan; DIP&SMD: SMD; Vendor Code: *; SAP: T5025600083A9; Vendor Name: *; Type: Resistor; CREATE_TIME: 17-June-2019; PACKAGE: 0201; Customer Specific: N/A
footprint 0201
pins: 1, 2

## RES0201 1/20W 1% 820 OHM_WALSIN
designator R?, comment value 820R  (hidden comment: T5028200083A9)
CHIP 820 OHM 200PPM +-1% 0201 WALS L; Power: 1/20W; MFG: WALSIN (華新); TOL: 1%; CREATE_NAME: Nathan; DIP&SMD: SMD; Vendor Code: *; SAP: T5028200083A9; Vendor Name: *; MFG Part: *; Type: Resistor; CREATE_TIME: 29-Mar-2017; PACKAGE: 0201; Customer Specific: N/A
footprint 0201
pins: 1, 2

## RES0201 1/20W 1% 910K OHM_WALSIN
designator R?, comment value 910K  (hidden comment: T5029103083A9)
CHIP 910K OHM 200PPM +-1% 0201 WALS L; MFG Part: WR02X9103FAL; Power: 1/20W; MFG: WALSIN; TOL: 1%; CREATE_NAME: Nathan; DIP&SMD: SMD; Vendor Code: *; SAP: T5029103083A9; Vendor Name: *; Type: Resistor; CREATE_TIME: 05-Mar-2020; PACKAGE: 0201; Customer Specific: N/A
footprint 0201
pins: 1, 2

## RES0201 1/20W 5% 0 OHM
designator R?, comment value 0R  (hidden comment: T5020000084A4)
CHIP 0 OHM     200PPM +-5% 0201 TA-I L; Power: 1/20W; MFG: TA-I (大毅); TOL: 5%; CREATE_NAME: Cherry.Chen; DIP&SMD: SMD; Vendor Code: *; SAP: T5020000084A4; Vendor Name: *; MFG Part: N/A; Type: Resistor; CREATE_TIME: 23-Feb-2016; PACKAGE: 0201; Customer Specific: N/A
footprint 0201
pins: 1, 2

## RES0201 1/20W 5% 0 OHM_WALSIN
designator R?, comment value 0R  (hidden comment: T5020000084A9)
CHIP 0 OHM 200PPM +-5% 0201 WALS L; MFG Part: WR02X000 PAL; Power: 1/20W; MFG: WALSIN; TOL: 5%; CREATE_NAME: Nathan; DIP&SMD: SMD; Vendor Code: *; SAP: T5020000084A9; Vendor Name: *; Type: Resistor; CREATE_TIME: 23-May-2016; PACKAGE: 0201; Customer Specific: N/A
footprint 0201
pins: 1, 2

## RES0201 1/20W 5% 1.1K OHM
designator R?, comment value 1K1  (hidden comment: T5020112084A1)
CHIP 1.1K OHM  200PPM +-5% 0201 YAGE L; Power: 1/20W; MFG: YAGEO (國巨); TOL: 5%; CREATE_NAME: Cherry.Chen; DIP&SMD: SMD; Vendor Code: *; SAP: T5020112084A1; Vendor Name: *; MFG Part: N/A; Type: Resistor; CREATE_TIME: 23-Feb-2016; PACKAGE: 0201; Customer Specific: N/A
footprint 0201
pins: 1, 2

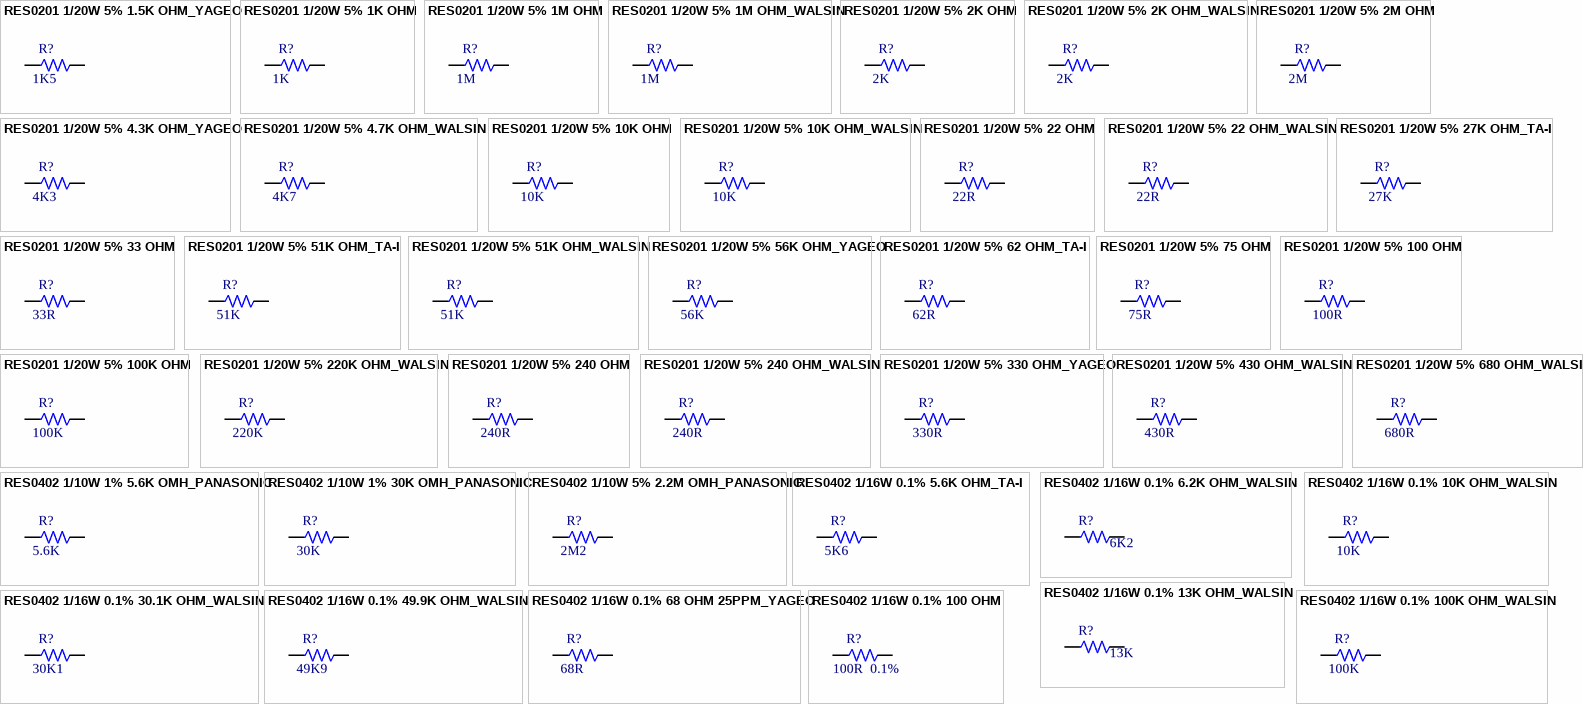
[diagram p2: symbols RES0201 1/20W 5% 1.5K OHM_YAGEO to RES0402 1/16W 0.1% 100K OHM_WALSIN]

## RES0201 1/20W 5% 1.5K OHM_YAGEO
designator R?, comment value 1K5  (hidden comment: T5020152084A1)
CHIP 1.5K OHM 200PPM +-5% 0201 YAGE L; MFG Part: RC0201JR-071K5L; Power: 1/20W; MFG: YAGEO; TOL: 5%; CREATE_NAME: Nathan; DIP&SMD: SMD; Vendor Code: *; SAP: T5020152084A1; Vendor Name: *; Type: Resistor; CREATE_TIME: 26-Mar-2020; PACKAGE: 0201; Customer Specific: N/A
footprint 0201
pins: 1, 2

## RES0201 1/20W 5% 1K OHM
designator R?, comment value 1K  (hidden comment: T5020102084A4)
CHIP 1K OHM 200PPM +-5% 0201 TA-I L; Power: 1/20W; TOL: 5%; CREATE_NAME: Cherry.Chen; DIP&SMD: SMD; Vendor Code: *; SAP: T5020102084A4; Vendor Name: *; MFG Part: N/A; MFG: TA-I; Type: Resistor; CREATE_TIME: 23-Feb-2016; PACKAGE: 0201; Customer Specific: N/A
footprint 0201
pins: 1, 2

## RES0201 1/20W 5% 1M OHM
designator R?, comment value 1M  (hidden comment: T5020105084A1)
CHIP 1M OHM    200PPM +-5% 0201 YAGE L; Power: 1/20W; MFG: YAGEO (國巨); TOL: 5%; CREATE_NAME: Cherry.Chen; DIP&SMD: SMD; Vendor Code: *; SAP: T5020105084A1; Vendor Name: *; MFG Part: N/A; Type: Resistor; CREATE_TIME: 23-Feb-2016; PACKAGE: 0201; Customer Specific: N/A
footprint 0201
pins: 1, 2

## RES0201 1/20W 5% 1M OHM_WALSIN
designator R?, comment value 1M  (hidden comment: T5020105084A9)
CHIP 1M OHM 200PPM +-5% 0201 WALSIN L; MFG Part: WR02X105 JAL; Power: 1/20W; MFG: WALSIN (華新); TOL: 5%; CREATE_NAME: Nathan; DIP&SMD: SMD; Vendor Code: *; SAP: T5020105084A9; Vendor Name: *; Type: Resistor; CREATE_TIME: 23-Mar-2017; PACKAGE: 0201; Customer Specific: N/A
footprint 0201
pins: 1, 2

## RES0201 1/20W 5% 2K OHM
designator R?, comment value 2K  (hidden comment: T5020202084A4)
CHIP 2K OHM    200PPM +-5% 0201 TA-I L; Power: 1/20W; MFG: TA-I (大毅); TOL: 5%; CREATE_NAME: Cherry.Chen; DIP&SMD: SMD; Vendor Code: *; SAP: T5020202084A4; Vendor Name: *; MFG Part: N/A; Type: Resistor; CREATE_TIME: 23-Feb-2016; PACKAGE: 0201; Customer Specific: N/A
footprint 0201
pins: 1, 2

## RES0201 1/20W 5% 2K OHM_WALSIN
designator R?, comment value 2K  (hidden comment: T5020202084A9)
CHIP 2K OHM    200PPM +-5% 0201 WALS L; MFG Part: WR02X202JAL; Power: 1/20W; MFG: WALSIN (華新); TOL: 5%; CREATE_NAME: Nathan; DIP&SMD: SMD; Vendor Code: *; SAP: T5020202084A9; Vendor Name: *; Type: Resistor; CREATE_TIME: 03-Jan-2018; PACKAGE: 0201; Customer Specific: N/A
footprint 0201
pins: 1, 2

## RES0201 1/20W 5% 2M OHM
designator R?, comment value 2M  (hidden comment: T5020205084A4)
CHIP 2M OHM    200PPM +-5% 0201 TA-I L; Power: 1/20W; MFG: TA-I (大毅); TOL: 5%; CREATE_NAME: Cherry.Chen; DIP&SMD: SMD; Vendor Code: *; SAP: T5020205084A4; Vendor Name: *; MFG Part: N/A; Type: Resistor; CREATE_TIME: 23-Feb-2016; PACKAGE: 0201; Customer Specific: N/A
footprint 0201
pins: 1, 2

## RES0201 1/20W 5% 4.3K OHM_YAGEO
designator R?, comment value 4K3  (hidden comment: T5020432084A1)
CHIP 4.3K OHM  200PPM +-5% 0201 YAGE L; Power: 1/20W; MFG: YAGEO (國巨); TOL: 5%; CREATE_NAME: Nathan; DIP&SMD: SMD; Vendor Code: *; SAP: T5020432084A1; Vendor Name: *; MFG Part: N/A; Type: Resistor; CREATE_TIME: 23-May-2016; PACKAGE: 0201; Customer Specific: N/A
footprint 0201
pins: 1, 2

## RES0201 1/20W 5% 4.7K OHM_WALSIN
designator R?, comment value 4K7  (hidden comment: T5020472084A9)
CHIP 4.7K OHM  200PPM +-5% 0201 WALS L; MFG Part: WR02X472 JAL; Power: 1/20W; MFG: WALSIN; TOL: 5%; CREATE_NAME: Nathan; DIP&SMD: SMD; Vendor Code: *; SAP: T5020472084A9; Vendor Name: *; Type: Resistor; CREATE_TIME: 08-Jan-2018; PACKAGE: 0201; Customer Specific: N/A
footprint 0201
pins: 1, 2

## RES0201 1/20W 5% 10K OHM
designator R?, comment value 10K  (hidden comment: T5020103084A4)
CHIP 10K OHM 200PPM +-5% 0201 TA-I L; Power: 1/20W; TOL: 5%; CREATE_NAME: Cherry.Chen; DIP&SMD: SMD; Vendor Code: *; SAP: T5020103084A4; Vendor Name: *; MFG Part: N/A; MFG: TA-I; Type: Resistor; CREATE_TIME: 24-Feb-2016; PACKAGE: 0201; Customer Specific: N/A
footprint 0201
pins: 1, 2

## RES0201 1/20W 5% 10K OHM_WALSIN
designator R?, comment value 10K  (hidden comment: T5020103084A9)
CHIP 10K OHM   200PPM +-5% 0201 WALS L; Power: 1/20W; MFG: WALSIN; TOL: 5%; CREATE_NAME: Nathan; DIP&SMD: SMD; Vendor Code: *; SAP: T5020103084A9; Vendor Name: *; MFG Part: N/A; Type: Resistor; CREATE_TIME: 23-May-2016; PACKAGE: 0201; Customer Specific: N/A
footprint 0201
pins: 1, 2

## RES0201 1/20W 5% 22 OHM
designator R?, comment value 22R  (hidden comment: T5020220084A4)
CHIP 22 OHM    200PPM +-5% 0201 TA-I L; Power: 1/20W; MFG: TA-I (大毅); TOL: 5%; CREATE_NAME: Cherry.Chen; DIP&SMD: SMD; Vendor Code: *; SAP: T5020220084A4; Vendor Name: *; MFG Part: N/A; Type: Resistor; CREATE_TIME: 23-Feb-2016; PACKAGE: 0201; Customer Specific: N/A
footprint 0201
pins: 1, 2

## RES0201 1/20W 5% 22 OHM_WALSIN
designator R?, comment value 22R  (hidden comment: T5020220084A9)
CHIP 22 OHM    200PPM +-5% 0201 WALS L; MFG Part: WR02X220 JAL; Power: 1/20W; MFG: WALSIN; TOL: 5%; CREATE_NAME: Nathan; DIP&SMD: SMD; Vendor Code: *; SAP: T5020220084A9; Vendor Name: *; Type: Resistor; CREATE_TIME: 08-Jan-2018; PACKAGE: 0201; Customer Specific: N/A
footprint 0201
pins: 1, 2

## RES0201 1/20W 5% 27K OHM_TA-I
designator R?, comment value 27K  (hidden comment: T5020273084A4)
CHIP 27K OHM 200PPM +-5% 0201 TA-I L; Power: 1/20W; TOL: 5%; CREATE_NAME: Nathan; DIP&SMD: SMD; Vendor Code: *; SAP: T5020273084A4; Vendor Name: *; MFG Part: *; MFG: TA-I; Type: Resistor; CREATE_TIME: 29-Mar-2017; PACKAGE: 0201; Customer Specific: N/A
footprint 0201
pins: 1, 2

## RES0201 1/20W 5% 33 OHM
designator R?, comment value 33R  (hidden comment: T5020330084A4)
CHIP 33 OHM    200PPM +-5% 0201 TA-I L; Power: 1/20W; MFG: TA-I (大毅); TOL: 5%; CREATE_NAME: Cherry.Chen; DIP&SMD: SMD; Vendor Code: *; SAP: T5020330084A4; Vendor Name: *; MFG Part: N/A; Type: Resistor; CREATE_TIME: 23-Feb-2016; PACKAGE: 0201; Customer Specific: N/A
footprint 0201
pins: 1, 2

## RES0201 1/20W 5% 51K OHM_TA-I
designator R?, comment value 51K  (hidden comment: T5020513084A4)
CHIP 51K OHM 200PPM +-5% 0201 TA-I L; Power: 1/20W; MFG: TA-I (大毅); TOL: 5%; CREATE_NAME: Nathan; DIP&SMD: SMD; Vendor Code: *; SAP: T5020513084A4; Vendor Name: *; MFG Part: *; Type: Resistor; CREATE_TIME: 29-Mar-2017; PACKAGE: 0201; Customer Specific: N/A
footprint 0201
pins: 1, 2

## RES0201 1/20W 5% 51K OHM_WALSIN
designator R?, comment value 51K  (hidden comment: T5020513084A9)
CHIP 51K OHM   200PPM +-5% 0201 WALS L; MFG Part: WR02X513JAL; Power: 1/20W; MFG: WALSIN (華新); TOL: 5%; CREATE_NAME: Nathan; DIP&SMD: SMD; Vendor Code: *; SAP: T5020513084A9; Vendor Name: *; Type: Resistor; CREATE_TIME: 03-Jan-2018; PACKAGE: 0201; Customer Specific: N/A
footprint 0201
pins: 1, 2

## RES0201 1/20W 5% 56K OHM_YAGEO
designator R?, comment value 56K  (hidden comment: T5020563084A1)
CHIP 56K OHM   200PPM +-5% 0201 YAGE L; Power: 1/20W; MFG: YAGEO (國巨); TOL: 5%; CREATE_NAME: Nathan; DIP&SMD: SMD; Vendor Code: *; SAP: T5020563084A1; Vendor Name: *; MFG Part: N/A; Type: Resistor; CREATE_TIME: 23-May-2016; PACKAGE: 0201; Customer Specific: N/A
footprint 0201
pins: 1, 2

## RES0201 1/20W 5% 62 OHM_TA-I
designator R?  value 62R  (hidden comment: *)
CHIP 62 OHM 200PPM +-5% 0201; MFG Part: RM02JTN062; Power: 1/20W; MFG: TA-I; TOL: 5%; CREATE_NAME: Nathan; DIP&SMD: SMD; Vendor Code: *; SAP: *; Vendor Name: *; Type: Resistor; CREATE_TIME: 23-Jul-2020; PACKAGE: 0201; Customer Specific: N/A
footprint 0201
pins: 1, 2

## RES0201 1/20W 5% 75 OHM
designator R?, comment value 75R  (hidden comment: T5020750084A1)
CHIP 75 OHM    200PPM +-5% 0201 YAGE L; Power: 1/20W; MFG: YAGEO (國巨); TOL: 5%; CREATE_NAME: Cherry.Chen; DIP&SMD: SMD; Vendor Code: *; SAP: T5020750084A1; Vendor Name: *; MFG Part: N/A; Type: Resistor; CREATE_TIME: 24-Feb-2016; PACKAGE: 0201; Customer Specific: N/A
footprint 0201
pins: 1, 2

## RES0201 1/20W 5% 100 OHM
designator R?, comment value 100R  (hidden comment: T5020101084A4)
CHIP 100 OHM   200PPM +-5% 0201 TA-I L; Power: 1/20W; MFG: TA-I (大毅/祥泰); TOL: 5%; CREATE_NAME: Cherry; DIP&SMD: SMD; Vendor Code: *; SAP: T5020101084A4; Vendor Name: *; MFG Part: *; Type: Resistor; CREATE_TIME: 23-Feb-2016; PACKAGE: 0201; Customer Specific: N/A
footprint 0201
pins: 1, 2

## RES0201 1/20W 5% 100K OHM
designator R?, comment value 100K  (hidden comment: T5020104084A4)
CHIP 100K OHM 200PPM +-5% 0201 TA-I L; Power: 1/20W; MFG: TA-I (大毅); TOL: 5%; CREATE_NAME: Cherry.Chen; DIP&SMD: SMD; Vendor Code: *; SAP: T5020104084A4; Vendor Name: *; MFG Part: N/A; Type: Resistor; CREATE_TIME: 24-Feb-2016; PACKAGE: 0201; Customer Specific: N/A
footprint 0201
pins: 1, 2

## RES0201 1/20W 5% 220K OHM_WALSIN
designator R?, comment value 220K  (hidden comment: T5020224084A9)
CHIP 220K OHM  200PPM +-5% 0201 WALS L; MFG Part: WR02X224JAL; Power: 1/20W; MFG: WALSIN (華新); TOL: 5%; CREATE_NAME: Nathan; DIP&SMD: SMD; Vendor Code: *; SAP: T5020224084A9; Vendor Name: *; Type: Resistor; CREATE_TIME: 03-Jan-2018; PACKAGE: 0201; Customer Specific: N/A
footprint 0201
pins: 1, 2

## RES0201 1/20W 5% 240 OHM
designator R?, comment value 240R  (hidden comment: T5020241084A1)
CHIP 240 OHM   200PPM +-5% 0201 YAGE L; Power: 1/20W; MFG: YAGEO (國巨); TOL: 5%; CREATE_NAME: Cherry.Chen; DIP&SMD: SMD; Vendor Code: *; SAP: T5020241084A1; Vendor Name: *; MFG Part: *; Type: Resistor; CREATE_TIME: 23-Feb-2016; PACKAGE: 0201; Customer Specific: N/A
footprint 0201
pins: 1, 2

## RES0201 1/20W 5% 240 OHM_WALSIN
designator R?, comment value 240R  (hidden comment: T5020241084A9)
CHIP 240 OHM   200PPM +-5% 0201 WALS L; MFG Part: WR02X241JAL; Power: 1/20W; MFG: WALSIN (華新); TOL: 5%; CREATE_NAME: Nathan; DIP&SMD: SMD; Vendor Code: *; SAP: T5020241084A9; Vendor Name: *; Type: Resistor; CREATE_TIME: 03-Jan-2018; PACKAGE: 0201; Customer Specific: N/A
footprint 0201
pins: 1, 2

## RES0201 1/20W 5% 330 OHM_YAGEO
designator R?, comment value 330R  (hidden comment: T5020331084A1)
CHIP 330 OHM 200PPM +-5% 0201 YAGE L; MFG Part: RC0201JR-07330RL; Power: 1/20W; MFG: YAGEO (國巨); TOL: 5%; CREATE_NAME: Nathan; DIP&SMD: SMD; Vendor Code: *; SAP: T5020331084A1; Vendor Name: *; Type: Resistor; CREATE_TIME: 17-June-2019; PACKAGE: 0201; Customer Specific: N/A
footprint 0201
pins: 1, 2

## RES0201 1/20W 5% 430 OHM_WALSIN
designator R?, comment value 430R  (hidden comment: T5020431084A9)
CHIP 430 OHM 200PPM +-5% 0201 WALS L; MFG Part: WR02X431 JAL; Power: 1/20W; MFG: WALSIN (華新); TOL: 5%; CREATE_NAME: Nathan; DIP&SMD: SMD; Vendor Code: *; SAP: T5020431084A9; Vendor Name: *; Type: Resistor; CREATE_TIME: 17-June-2019; PACKAGE: 0201; Customer Specific: N/A
footprint 0201
pins: 1, 2

## RES0201 1/20W 5% 680 OHM_WALSIN
designator R?, comment value 680R  (hidden comment: T5020681084A9)
CHIP 680 OHM   200PPM +-5% 0201 WALS L; MFG Part: WR02X681JAL; Power: 1/20W; MFG: WALSIN (華新); TOL: 5%; CREATE_NAME: Nathan; DIP&SMD: SMD; Vendor Code: *; SAP: T5020681084A9; Vendor Name: *; Type: Resistor; CREATE_TIME: 03-Jan-2018; PACKAGE: 0201; Customer Specific: N/A
footprint 0201
pins: 1, 2

## RES0402 1/10W 1% 5.6K OMH_PANASONIC
designator R?  value 5.6K  (hidden comment: *)
CHIP 5.6K OHM  +-1% 0402 PANASONIC; MFG Part: ERJ-2RKF3002X; TOL: 1%; Power: 0.1W; CREATE_NAME: Nathan; DIP&SMD: SMD; SAP: *; Package: 0402; MFG: Panasonic; Vendor Code: *; Vendor Name: *; Type: Resistor; CREATE_TIME: 11-Sep-2020; Customer Specific: N/A
footprint 0402-RW H0.35
pins: 1, 2

## RES0402 1/10W 1% 30K OMH_PANASONIC
designator R?  value 30K  (hidden comment: *)
CHIP 30K OHM  +-1% 0402 PANASONIC; MFG Part: ERJ-2RKF3002X; TOL: 1%; Power: 0.1W; CREATE_NAME: Nathan; DIP&SMD: SMD; SAP: *; Package: 0402; MFG: Panasonic; Vendor Code: *; Vendor Name: *; Type: Resistor; CREATE_TIME: 11-Sep-2020; Customer Specific: N/A
footprint 0402-RW H0.35
pins: 1, 2

## RES0402 1/10W 5% 2.2M OMH_PANASONIC
designator R?  value 2M2  (hidden comment: *)
CHIP 2.2M OHM +-5% 0402 PANASONIC; MFG Part: ERJ-2GEJ225X; TOL: 5%; Power: 0.1W; CREATE_NAME: Nathan; DIP&SMD: SMD; SAP: *; Package: 0402; MFG: Panasonic; Vendor Code: *; Vendor Name: *; Type: Resistor; CREATE_TIME: 11-Sep-2020; Customer Specific: N/A
footprint 0402-RW H0.35
pins: 1, 2

## RES0402 1/16W 0.1% 5.6K OHM_TA-I
designator R?, comment value 5K6  (hidden comment: T501560101114)
CHIP 5.6K OHM 25PPM +-0.1% 0402 TA-I L; MFG Part: RB04BTP5601; TOL: 0.1%; MFG: TA-I (大毅); Power: 1/16W; CREATE_NAME: Nathan; DIP&SMD: SMD; SAP: T501560101114; Package: 0402; Vendor Code: *; Vendor Name: *; Type: Resistor; CREATE_TIME: 15-Jun-2020; Customer Specific: N/A
footprint 0402-RW
pins: 1, 2

## RES0402 1/16W 0.1% 6.2K OHM_WALSIN
designator R?, comment value 6K2  (hidden comment: T502620101199)
CHIP 6.2K OHM 100PPM +-0.1% 0402 WALS L; MFG Part: WF04H6201BTL; TOL: 0.1%; MFG: WALSIN (華新); Power: 1/16W; CREATE_NAME: Nathan; DIP&SMD: SMD; SAP: T502620101199; Package: 0402; Vendor Code: *; Vendor Name: *; Type: Resistor; CREATE_TIME: 02-June-2020; Customer Specific: N/A
footprint 0402-RW
pins: 1, 2

## RES0402 1/16W 0.1% 10K OHM_WALSIN
designator R?, comment value 10K  (hidden comment: T710600041000)
CHIP 10K OHM 100PPM +-0.1% 0402 WALS L; MFG Part: WF04H1002BTL; TOL: 0.1%; MFG: WALSIN; Power: 1/16W; CREATE_NAME: Nathan; DIP&SMD: SMD; SAP: T710600041000; Package: 0402; Vendor Code: *; Vendor Name: *; Type: Resistor; CREATE_TIME: 23-Oct-2019; Customer Specific: N/A
footprint 0402-RW
pins: 1, 2

## RES0402 1/16W 0.1% 13K OHM_WALSIN
designator R?, comment value 13K  (hidden comment: T502130201199)
CHIP RES 13K OHM 0.1% 1/16W 0402; MFG Part: WF04H1302BTL; MFG: WALSIN (華新); CREATE_NAME: Nathan; DIP&SMD: SMD; SAP: T502130201199; Package: 0402; TOL: 0.1%; Vendor Code: *; Vendor Name: *; Type: Resistor; Power: 1/16W; CREATE_TIME: 02-June-2020; Customer Specific: N/A
footprint 0402-RW
pins: 1, 2

## RES0402 1/16W 0.1% 30.1K OHM_WALSIN
designator R?, comment value 30K1  (hidden comment: T710600041100)
CHIP 30.1K OHM 100PPM +-0.1% 0402 WALS L; MFG Part: WF04H3012BTL; TOL: 0.1%; MFG: WALSIN; Power: 1/16W; CREATE_NAME: Nathan; DIP&SMD: SMD; SAP: T710600041100; Package: 0402; Vendor Code: *; Vendor Name: *; Type: Resistor; CREATE_TIME: 23-Oct-2019; Customer Specific: N/A
footprint 0402-RW
pins: 1, 2

## RES0402 1/16W 0.1% 49.9K OHM_WALSIN
designator R?, comment value 49K9  (hidden comment: T710600041300)
CHIP 49.9K OHM 100PPM +-0.1% 0402 WALS L; MFG Part: WF04H4992BTL; TOL: 0.1%; MFG: WALSIN; Power: 1/16W; CREATE_NAME: Nathan; DIP&SMD: SMD; SAP: T710600041300; Package: 0402; Vendor Code: *; Vendor Name: *; Type: Resistor; CREATE_TIME: 23-Oct-2019; Customer Specific: N/A
footprint 0402-RW
pins: 1, 2

## RES0402 1/16W 0.1% 68 OHM 25PPM_YAGEO
designator R?  value 68R  (hidden comment: *)
CHIP 100K OHM 100PPM +-0.1% 0402 YAGEO; MFG Part: RT0402BRD0768RL; TOL: 0.1%; Power: 1/16W; CREATE_NAME: Nathan; DIP&SMD: SMD; SAP: *; Package: 0402; MFG: YAGEO; Vendor Code: *; Vendor Name: *; Type: Resistor; CREATE_TIME: 04-Sep-2020; Customer Specific: N/A
footprint 0402-RW
pins: 1, 2

## RES0402 1/16W 0.1% 100 OHM
designator R?, comment value 100R  TOL: 0.1%  (hidden comment: QCF167240-1000)
CHIP RES 100 OHM 1/16W 0.1% 0402; SAP: T501100001129; CREATE_NAME: TOM@Deftronics; DIP&SMD: SMD; Package: 0402; MFG Part: *; MFG: *; Vendor Code: *; Vendor Name: *; Type: Resistor; Power: 1/16W; CREATE_TIME: 05-Jun-2014; Customer Specific: N/A
footprint 0402-RW
pins: 1, 2

## RES0402 1/16W 0.1% 100K OHM_WALSIN
designator R?, comment value 100K  (hidden comment: T710600041400)
CHIP 100K OHM 100PPM +-0.1% 0402 WALS L; MFG Part: WF04H1003BTL; TOL: 0.1%; MFG: WALSIN; Power: 1/16W; CREATE_NAME: Nathan; DIP&SMD: SMD; SAP: T710600041400; Package: 0402; Vendor Code: *; Vendor Name: *; Type: Resistor; CREATE_TIME: 23-Oct-2019; Customer Specific: N/A
footprint 0402-RW
pins: 1, 2

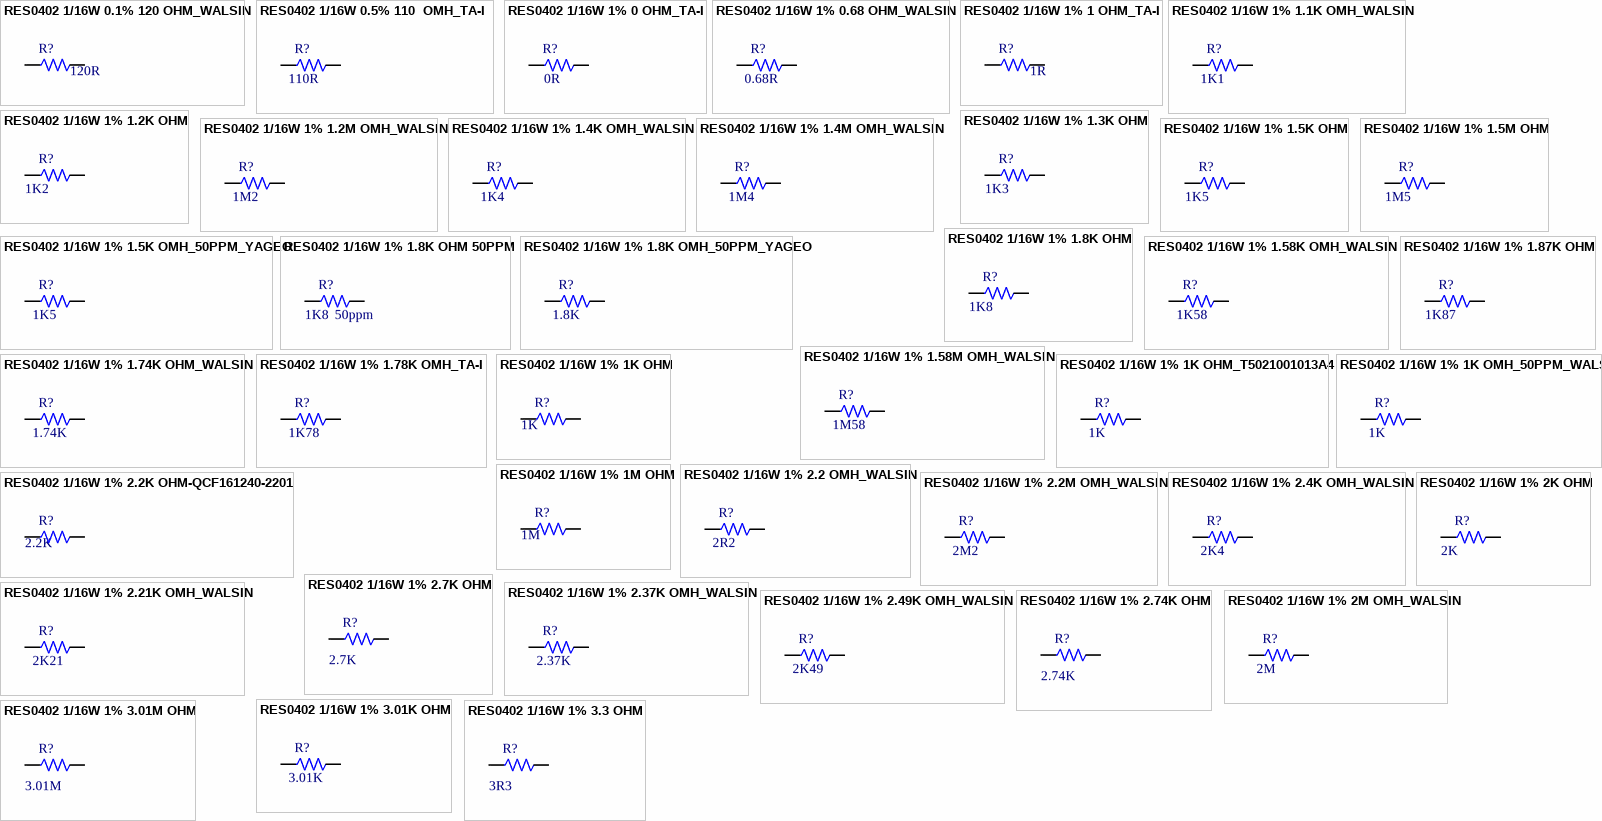
[diagram p3: symbols RES0402 1/16W 0.1% 120 OHM_WALSIN to RES0402 1/16W 1% 3.3 OHM]

## RES0402 1/16W 0.1% 120 OHM_WALSIN
designator R?, comment value 120R  (hidden comment: T502120001199)
CHIP RES 120 OHM 0.1% 1/16W 0402; MFG Part: WF04H1200BTL; MFG: WALSIN (華新); CREATE_NAME: Nathan; DIP&SMD: SMD; SAP: T502120001199; Package: 0402; TOL: 0.1%; Vendor Code: *; Vendor Name: *; Type: Resistor; Power: 1/16W; CREATE_TIME: 02-June-2020; Customer Specific: N/A
footprint 0402-RW
pins: 1, 2

## RES0402 1/16W 0.5% 110  OMH_TA-I
designator R?, comment value 110R  (hidden comment: T502110001294)
CHIP 110 OHM   100PPM +-0.5% 0402 TA-I L; TOL: 0.5%; MFG: TA-I (大毅); Power: 1/16W; CREATE_NAME: Nathan; DIP&SMD: SMD; SAP: T502110001294; Package: 0402; MFG Part: *; Vendor Code: *; Vendor Name: *; Type: Resistor; CREATE_TIME: 25-May-2016; Customer Specific: N/A
footprint 0402-RW
pins: 1, 2

## RES0402 1/16W 1% 0 OHM_TA-I
designator R?, comment value 0R  (hidden comment: T5020000013A4)
CHIP 0 OHM 200PPM +-1% 0402 TA-I L; MFG Part: RM04FTN0; Power: 1/16W; TOL: 1%; CREATE_NAME: Nathan; DIP&SMD: SMD; Vendor Code: *; SAP: T5020000013A4; Vendor Name: *; MFG: TA-I; Type: Resistor; PACKAGE: 0402; CREATE_TIME: 10-Mar-2020; Customer Specific: N/A
footprint 0402-RW
pins: 1, 2

## RES0402 1/16W 1% 0.68 OHM_WALSIN
designator R?, comment value 0.68R  (hidden comment: T502680C013E9)
CHIP 0.68 OHM 600PPM +-1% 0402 WALS L; MFG Part: WW04XR680FTL; TOL: 1%; MFG: WALSIN; Power: 1/16W; CREATE_NAME: Tom; DIP&SMD: SMD; SAP: T502680C013E9; Package: 0402; Vendor Code: *; Vendor Name: *; Type: Resistor; CREATE_TIME: 08-Aug-2019; Customer Specific: N/A
footprint 0402-RW
pins: 1, 2

## RES0402 1/16W 1% 1 OHM_TA-I
designator R?, comment value 1R  (hidden comment: T502100B013A4)
CHIP 1 OHM 200PPM +-1% 0402 TA-I L; MFG Part: RM04FTN1R00; TOL: 1%; Power: 1/16W; CREATE_NAME: Nathan; DIP&SMD: SMD; SAP: T502100B013A4; Package: 0402; MFG: TA-I; Vendor Code: *; Vendor Name: *; Type: Resistor; CREATE_TIME: 09-Mar-2020; Customer Specific: N/A
footprint 0402-RW
pins: 1, 2

## RES0402 1/16W 1% 1.1K OMH_WALSIN
designator R?, comment value 1K1  (hidden comment: T502110101399)
CHIP 1.1K OHM 100PPM +-1% 0402 WALS L; MFG Part: WR04X1101FTL; TOL: 1%; MFG: WALSIN (華新); Power: 1/16W; CREATE_NAME: Nathan; DIP&SMD: SMD; SAP: T502110101399; Package: 0402; Vendor Code: *; Vendor Name: *; Type: Resistor; CREATE_TIME: 11-Jun-2019; Customer Specific: N/A
footprint 0402-RW
pins: 1, 2

## RES0402 1/16W 1% 1.2K OHM
designator R?, comment value 1K2  (hidden comment: QCF161240-1201)
CHIP RES 1.2K OHM 1% 1/16W 0402; SAP: T502120101399; CREATE_NAME: GordonL@Deftronics; DIP&SMD: SMD; Vendor Code: *; Power: 1/16W; Vendor Name: *; MFG Part: *; MFG: *; TOL: 1%; Type: Resistor; CREATE_TIME: 18-Feb-2014; PACKAGE: 0402; Customer Specific: N/A
footprint 0402-RW
pins: 1, 2